# Altium schematic symbol library ESP32-S3_Super_Mini.SchLib: 1 symbol
Pins are listed as number, name and electrical type; pins without a type are passive.

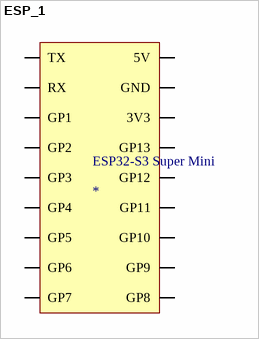
[diagram p0: symbol ESP_1]

## ESP_1
designator ESP32-S3 Super Mini
footprint MODULE_ESP32-C3_SUPERMINI_TH
pins: 1 TX (io), 2 RX (io), 3 GP1 (io) "GPIO 1", 4 GP2 (io) "GPIO 2", 5 GP3 (io) "GPIO 3", 6 GP4 (io) "GPIO 4", 7 GP5 (io) "GPIO 5", 8 GP6 (io) "GPIO 6", 9 GP7 (io) "GPIO 7", 10 5V (power), 11 GND (power), 12 3V3 (power) "3.3V", 13 GP13 (io) "GPIO 13", 14 GP12 (io) "GPIO 12", 15 GP11 (io) "GPIO 11", 16 GP10 (io) "GPIO 10", 17 GP9 (io) "GPIO 9", 18 GP8 (io) "GPIO 8"